# Altium footprint library axsem_other_modules_v1-0.PCBLIB: 1 footprints
Each footprint in its own frame and in the unit in brackets; x right, y up, seen from the top. Pads: shape width x height; smd on the part's side, far side on the other; paste and mask are expansions set on the pad; w line width, h text height; cw(c..) or ccw(c..) is an arc to the next point about the centre after c.
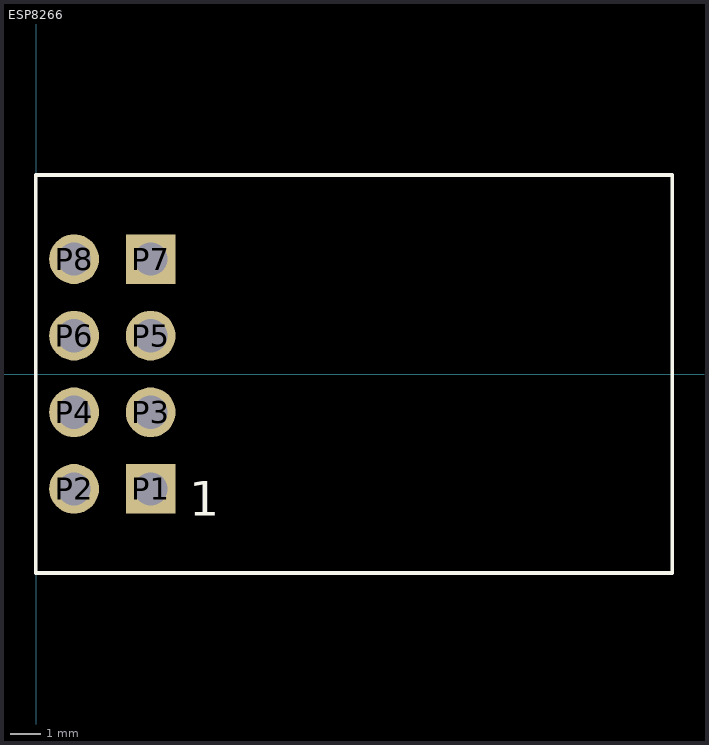
[diagram p0: the footprint, top view; thin cyan lines are the x and y axes]

## ESP8266 [mil]
pads (8):
  rect 64.97x64.97 hole 43.31: P1(149.61,-150) P7(149.61,150)
  round 64.97 hole 43.31: P2(49.61,-150) P3(149.61,-50) P4(49.61,-50) P5(149.61,50) P6(49.61,50) P8(49.61,150)
Top Overlay:
  lines w5: -0.39,-259.84 -0.39,259.84 830.71,259.84 830.71,-259.84 -0.39,-259.84
  text "1" at 200,-200 h77.5